# EAGLE library part USB_B (library Connectors > USB)
USB+Shield USB connector with shield pins connectable
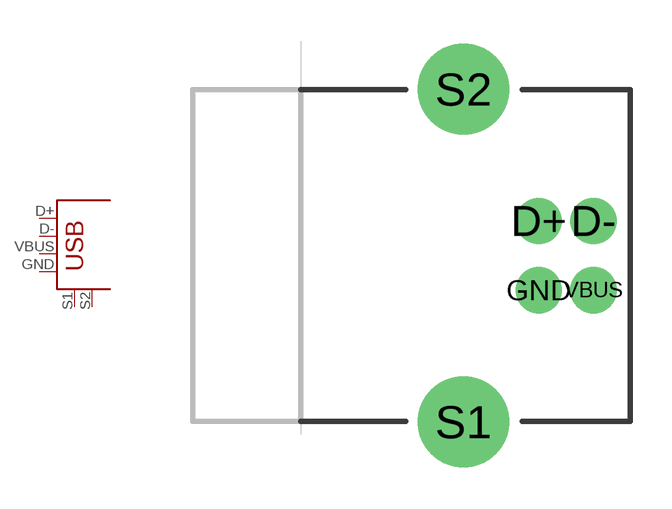
[diagram p0: symbol with the pads of USB-B-TH; footprint USB-B-TH]

Designator prefix -

## USB_B  [USB-B-TH]
D+  D+
D-  D-
GND  GND
S1  P$1
S2  P$2
VBUS  VBUS

## Footprint USB-B-TH (pad centres in mm)
USB Series B Hole Mounted
drill 0.914 pad 1.676: D+ 0,1.25; D- 1.981,1.25; GND 0,-1.25; VBUS 1.981,-1.25
drill 2.286: S1 -2.718,-6.02; S2 -2.718,6.02